# Altium schematic symbol library PMIC.SchLib: 2 symbols
Pins are listed as number, name and electrical type; pins without a type are passive.

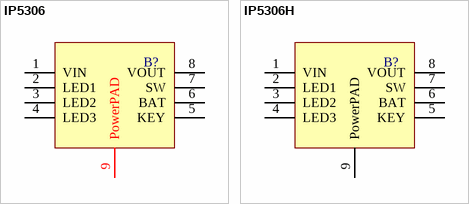
[diagram p0: symbols IP5306 to IP5306H]

## IP5306
designator B?  (value not drawn)
INJOINIC(英集芯) 全集成移动电源系统芯片; 封装: ESOP-8; 类别: 电源管理; 输入电流: 2.1A; 输出电流: 2.4A; 工作电压: 4.65V-5.5V; 工作温度: 0℃-+70℃; 电池数量: 1; 输出电压: 5V; 制造商: INJOINIC(英集芯); 子类别: *; ComponentLink1Description: 数据手册; ComponentLink1URL: https://www.injoinic.com/api//static/uploads/20250528/20250528180813_6836e08d3eb50.pdf
footprint INJOINIC-ESOP-8 (SOP, 8-Leads, Body 4.90x3.90mm, Pitch 1.27mm, Thermal Pad 3.10x2.21mm, IPC Medium Density)
pins: 1 VIN, 2 LED1, 3 LED2, 4 LED3, 5 KEY, 6 BAT, 7 SW, 8 VOUT, 9 PowerPAD 

## IP5306H
designator B?  (value not drawn)
INJOINIC(英集芯) 全集成移动电源系统芯片输入可耐压12V; 封装: ESOP-8; 类别: 电源管理; 输入电流: 2.1A; 输出电流: 2.4A; 工作电压: 4.65V-5.5V; 工作温度: 0℃-+70℃; 电池数量: 1; 输出电压: 5V; 制造商: INJOINIC(英集芯); 子类别: *; ComponentLink1Description: 数据手册; ComponentLink1URL: https://www.injoinic.com/api//static/uploads/20250528/20250528180752_6836e0782ebea.pdf
footprint INJOINIC-ESOP-8 (SOP, 8-Leads, Body 4.90x3.90mm, Pitch 1.27mm, Thermal Pad 3.10x2.21mm, IPC Medium Density)
pins: 1 VIN, 2 LED1, 3 LED2, 4 LED3, 5 KEY, 6 BAT, 7 SW, 8 VOUT, 9 PowerPAD 